# EAGLE library part POT_STEREO (library bao19)
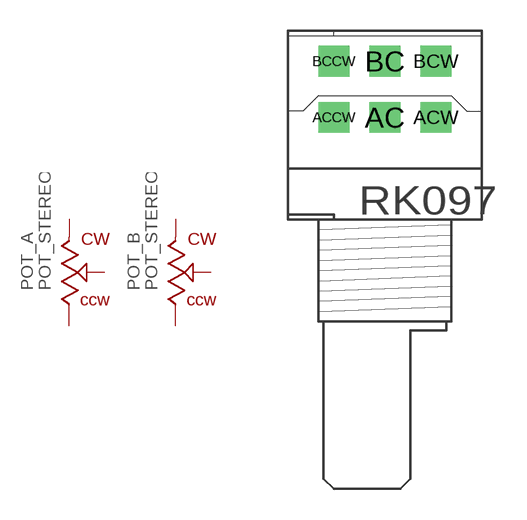
[diagram p4: symbol with the pads of POT_ALPS_RK097_ST_CENTERED; footprint POT_ALPS_RK097_ST_CENTERED]

Designator prefix POT; gates _A=POT _B=POT

## POT_STEREOST_H_B50K (NHPREF: 112; POPULATE: TRUE; VALUE: B50k)  [POT_ALPS_RK097_ST_CENTERED]
AC  _A:C  pas
ACCW  _A:CCW  pas
ACW  _A:CW  pas
BC  _B:C  pas
BCCW  _B:CCW  pas
BCW  _B:CW  pas

## POT_STEREOST_H_A50K (NHPREF: 110; POPULATE: TRUE; VALUE: A50k)  [POT_ALPS_RK097_ST_CENTERED]
Pads as for POT_ALPS_RK097_ST_CENTERED

## Footprint POT_ALPS_RK097_ST_CENTERED (pad centres in mm)
drill 1 pad 1.422 square: AC 0,5.02; ACCW -2.5,5.02; ACW 2.5,5.02; BC 0,7.77; BCCW -2.5,7.77; BCW 2.5,7.77